# Altium footprint library Fuse.PcbLib: 13 footprints
Each footprint in its own frame and in the unit in brackets; x right, y up, seen from the top. Pads: shape width x height; smd on the part's side, far side on the other; paste and mask are expansions set on the pad; w line width, h text height; cw(c..) or ccw(c..) is an arc to the next point about the centre after c.
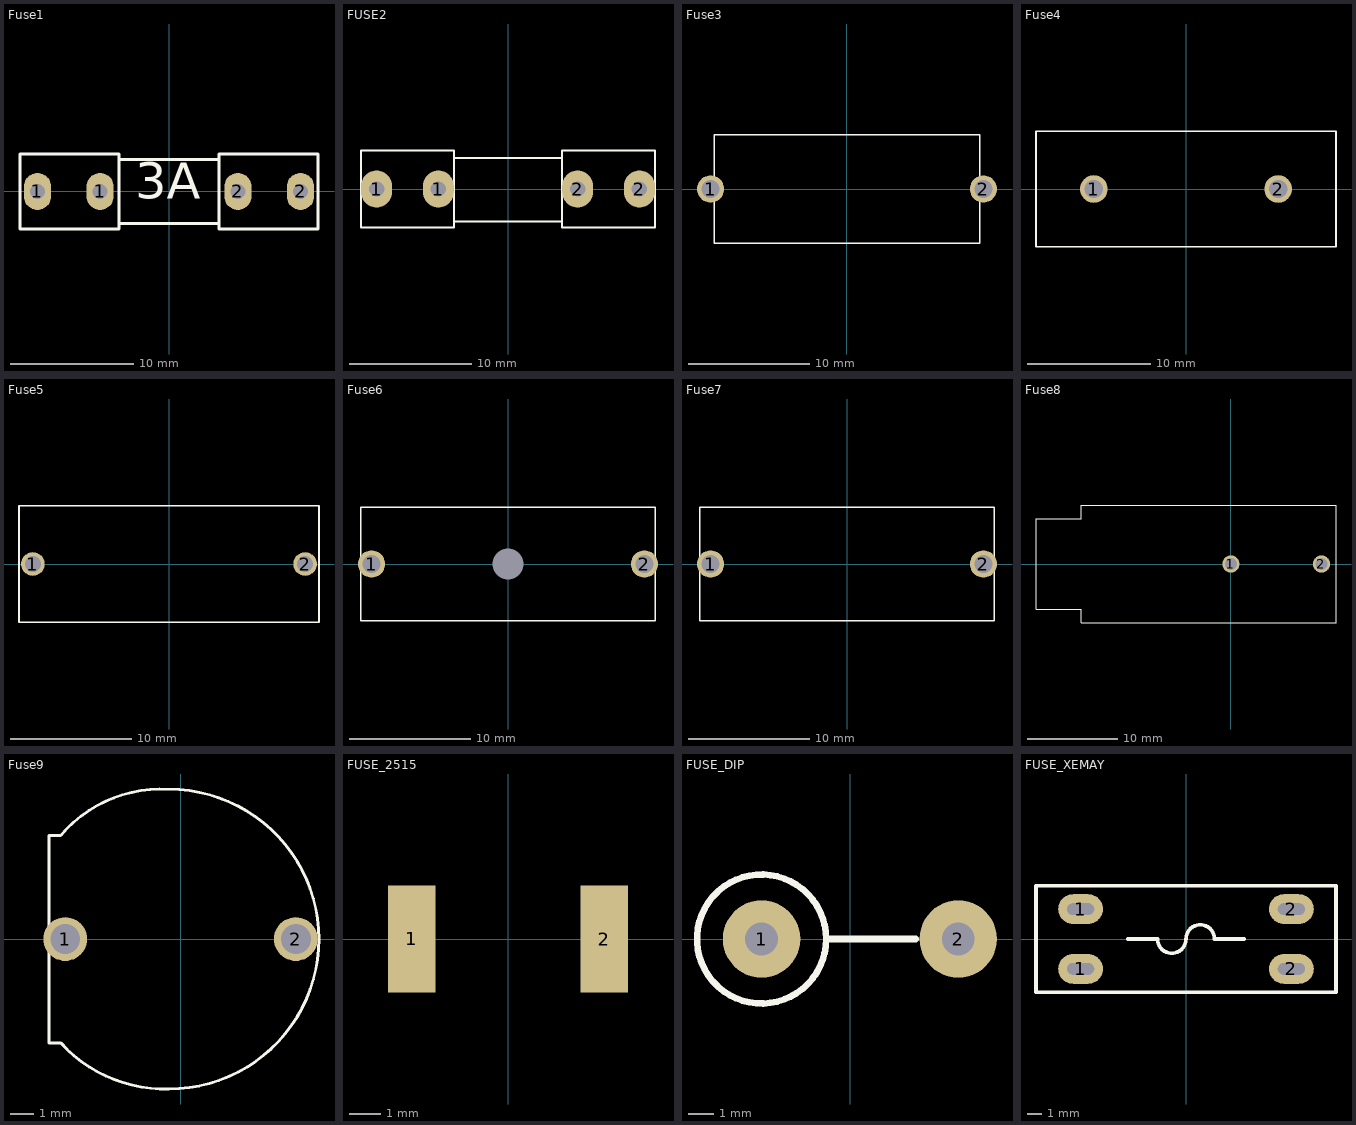
[diagram p0: the footprints below, top view; thin cyan lines are the x and y axes]

## Fuse1 [mm]
pads (4):
  oval 2.2x3 hole 1.2: 1(-10.684,0) 1(-5.604,0) 2(5.579,0) 2(10.659,0)
Top Overlay:
  lines w0.254: -4.064,-2.591 0,-2.591 ; -4.064,2.591 0,2.591 ; -0.025,-2.591 4.039,-2.591 ; -0.025,2.591 4.039,2.591 ; -12.116,-3.048 -12.116,3.048 -4.064,3.048 -4.064,-3.048 -12.116,-3.048 ; 4.039,-3.048 12.09,-3.048 12.09,3.048 4.039,3.048 4.039,-3.048
  text "3A" at -2.743,-1.549 h5
3D body "User Library-FUSE-5.step": height -5.4, standoff -10.4, extent -10.025,-2.499 9.975,2.499
3D body "SW3DPS-FUSE-DEFAULT.step": height 9.75, standoff -3.01, extent 5.391,-2.952 10.871,2.952
3D body "SW3DPS-FUSE-DEFAULT.step": height 9.75, standoff -3.01, extent -10.839,-2.952 -5.359,2.952

## FUSE2 [mil] "De Fuse"
pads (4):
  oval 100x120 hole 50: 1(-425,0) 1(-225,0) 2(225,0) 2(425,0)
Top Overlay:
  lines w7: -175,-105 175,-105 ; -175,100 175,100 ; -475,-125 -475,125 -175,125 -175,-125 -475,-125 ; 175,-125 475,-125 475,125 175,125 175,-125
3D body "SW3dPS-Fuse Leg_2009.STEP": height 377.88, standoff -129.94, extent 219,-116.71 459,127
3D body "SW3dPS-Fuse Small 1A.STEP": height 370.39, standoff 169.61, extent -384.8,-98 390.8,102.79
3D body "SW3dPS-Fuse Leg_2009.STEP": height 377.88, standoff -129.94, extent -448,-117 -208,126.71

## Fuse3 [mm] "FUSEHOLDER BLOCKS - PCB - CLIP COVER - THT - WR-FSH"
height 13.5
pads (2):
  round 2.25 hole 1.5: 1(-11.3,0) 2(11.3,0)
Top Overlay:
  lines w0.127: -11,-4.5 11,-4.5 11,4.5 -11,4.5 -11,-4.5
3D body "696101000002.stp": height 28.11, standoff -4.49, extent -13.3,-4.5 13.3,4.5

## Fuse4 [mm] "FUSEHOLDER BLOCKS - PCB - CLIP COVER - THT - WR-FSH"
height 11.5
pads (2):
  round 2.25 hole 1.5: 1(-7.5,0) 2(7.5,0)
Top Overlay:
  lines w0.127: -12.2,-4.7 12.2,-4.7 12.2,4.7 -12.2,4.7 -12.2,-4.7
3D body "696106003002.stp": height 23.72, standoff -3.48, extent -12.2,-4.7 12.2,4.7

## Fuse5 [mm] "PCB - Clip Cover - THR"
height 12.6
pads (2):
  round 1.95 hole 1.3: 1(-11.25,0) 2(11.25,0)
Top Overlay:
  lines w0.127: -12.4,-4.8 -12.4,4.8 12.4,4.8 12.4,-4.8 -12.4,-4.8
3D body "696103201002.stp": height 25, standoff -4.1, extent -12.4,-4.8 12.4,4.8

## Fuse6 [mm] "FUSEHOLDER BLOCKS - PCB - CLIP COVER - THT - WR-FSH"
height 11.5
pads (3):
  round 2.25 hole 1.5: 1(-11.3,0) 2(11.3,0)
  round 0 hole 2.6 unplated: ""(0,0)
Top Overlay:
  lines w0.127: -12.2,-4.7 -12.2,4.7 12.2,4.7 12.2,-4.7 -12.2,-4.7
3D body "696107003002.stp": height 23.72, standoff -3.48, extent -12.2,-4.7 12.2,4.7

## Fuse7 [mm] "FUSEHOLDER BLOCKS - PCB - CLIP COVER - THT - WR-FSH"
height 11.5
pads (2):
  round 2.25 hole 1.5: 1(-11.3,0) 2(11.3,0)
Top Overlay:
  lines w0.127: -12.2,-4.7 12.2,-4.7 12.2,4.7 -12.2,4.7 -12.2,-4.7
3D body "696108003002.stp": height 23.72, standoff -3.48, extent -12.2,-4.7 12.2,4.7

## Fuse8 [mm] "WR-FSH Shocksafe Fuseholder-PCB-Turn and Lock Cover-THT"
height 11.7
pads (2):
  round 1.9 hole 1.3: 1(0,0) 2(10,0)
Top Overlay:
  lines w0.127: -21.5,-5 -21.5,5 -16.5,5 -16.5,6.5 11.6,6.5 11.6,-6.5 -16.5,-6.5 -16.5,-5 -21.5,-5
3D body "696310001002.stp": height 12.21, standoff -4.49, extent -21.608,-6.561 11.692,6.438

## Fuse9 [mm] "WR-FSH Shocksafe Fuseholder-PCB-Turn and Lock Cover-THT"
height 28.1
pads (2):
  round 1.9 hole 1.3: 1(-5,0) 2(5,0)
Top Overlay:
  lines w0.127: -5.7,-4.5 -5.2,-4.5 ccw(c-0.671,-0.379) -0.5,-6.5 ccw(c-0.5,0) -0.5,6.5 ccw(c-0.834,0.761) -5.2,4.5 -5.7,4.5 -5.7,-4.5
3D body "696309001002.stp": height 33.37, standoff -4.93, extent -5.7,-6.5 6,6.5

## FUSE_1206 [mm]

## FUSE_2515 [mm]
pads (2):
  rect 1.5x3.4 smd: 1(-3.064,0.005) 2(3.05,0)
3D body "CircuitWorks-RESISTOR 2512.step": height 0.58, standoff -0.03, extent -3.175,-1.63 3.175,1.63

## FUSE_DIP [mm]
pads (2):
  round 3 hole 1.27: 1(-3.429,0) 2(4.191,0)
Top Overlay:
  circle w0.254: c-3.429,0 r2.5
  lines w0.254: -0.929,0 2.54,0
3D body "FUSE5x20VERT.stp": height 22.4, standoff -2.6, extent -5.929,-2.5 4.591,2.5

## FUSE_XEMAY [mm]
pads (4):
  oval 3x2 hole 0.762 slot 1.8 at 0 deg: 1(-7.05,-2) 1(-7.05,2) 2(7.05,-2) 2(7.05,2)
Top Overlay:
  lines w0.254: -3.873,0 -1.968,0 ; -1.905,0 ccw(c-0.953,0) 0,0 cw(c0.953,0) 1.905,0 ; 1.968,0 3.873,0 ; -10.033,-3.556 10.033,-3.556 10.033,3.556 -10.033,3.556 -10.033,-3.556
3D body "User Library-blade fuse - 1 to 40 a - 32 v.step": height 21.29, standoff 2.49, extent -9.525,-2.54 9.525,2.54
3D body "Universal Car Fuse Holder PCB v1.step": height 7.5, standoff -2.75, extent -10,-3.5 10,3.5